# EAGLE library part AM4_SOCKET_SINGLE (library AM4 Socket by YTM)
One Piece Symbol AM4 Socket Footprint by YeaTheMen AMD Ryzen AM4 Socket Footprint EAGLE Library Footprint Revision C github.com/YeaTheMen/eagle-libraries Notes * Measurements and Pins referenced from resources from WikiChip AM4 Socket <https://en.wikichip.org/wiki/amd/packages/socket_am4>
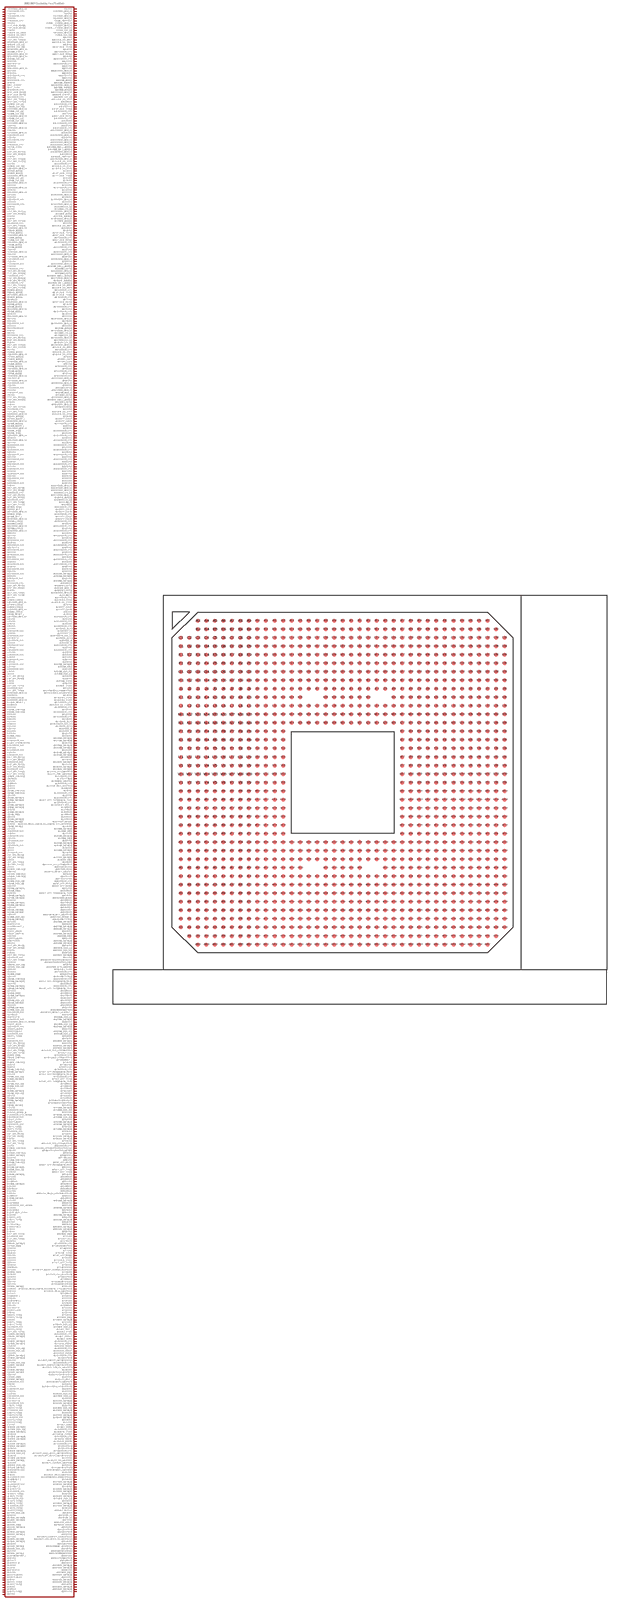
[diagram p0: symbol with the pads of AM4_SOCKET; footprint AM4_SOCKET]

Designator prefix -

## AM4_SOCKET_SINGLE  [AM4_SOCKET]
A3  A3.VSS  out
A4  A4.DP0_TXN[2]
A5  A5.RSVD  nc
A6  A6.VSS  out
A7  A7.DP2_TXP[1]
A8  A8.DP2_TXN[1]
A9  A9.VSS  out
A10  A10.DP2_AUXP
A11  A11.DP2_AUXN
A12  A12.VSS  out
A13  A13.TEST11
A14  A14.TDI
A15  A15.VSS  out
A16  A16.TEST41
A17  A17.SVT
A18  A18.VSS  out
A19  A19.THERMTRIP_L
A20  A20.MB_DATA[4]
A21  A21.VSS  out
A22  A22.MB_DQS_L[0]
A23  A23.MB_DATA[6]
A24  A24.VSS  out
A25  A25.MB_DATA[12]
A26  A26.MB_DATA[8]
A27  A27.VSS  out
A28  A28.MB_DATA[14]
A29  A29.MB_DATA[10]
A30  A30.VSS  out
A31  A31.MB_DATA[16]
A32  A32.MB_DM[2]
A33  A33.VSS  out
A34  A34.MB_DATA[23]
A35  A35.MB_DATA[28]
A36  A36.VSS  out
A37  A37.MB_DQS_L[3]
AA1  AA1.VSS  out
AA2  AA2.USB_SS_1RXP
AA3  AA3.USB_SS_1RXN
AA4  AA4.VSS  out
AA5  AA5.P_HUB_TXP[1]
AA6  AA6.VSS  out
AA7  AA7.VDDCR_CPU  pwr
AA8  AA8.P_HUB_RXN[1]
AA9  AA9.VSS  out
AA10  AA10.VDDCR_CPU  pwr
AA11  AA11.VSS  out
AA12  AA12.VDDCR_CPU  pwr
AA13  AA13.VSS  out
AA27  AA27.VSS  out
AA28  AA28.VDDIO_MEM_S3  pwr
AA29  AA29.VSS  out
AA30  AA30.TEST31
AA31  AA31.VSS  out
AA32  AA32.MA_ADD[0]
AA33  AA33.MA_BANK[1]
AA34  AA34.VDDIO_MEM_S3  pwr
AA35  AA35.MA_BANK[0]
AA36  AA36.MA_ADD[10]
AA37  AA37.VDDIO_MEM_S3  pwr
AA38  AA38.MB_EVENT_L
AA39  AA39.MB_CLK_L[3]
AB1  AB1.USB_SS_1TXP
AB2  AB2.RSVD  nc
AB3  AB3.VDDCR_CPU  pwr
AB4  AB4.TEST10
AB5  AB5.P_HUB_TXN[1]
AB6  AB6.VDDCR_CPU  pwr
AB7  AB7.VSS  out
AB8  AB8.P_HUB_RXP[1]
AB9  AB9.VDDCR_CPU  pwr
AB10  AB10.VSS  out
AB11  AB11.VDDCR_CPU  pwr
AB12  AB12.VSS  out
AB13  AB13.VDDCR_CPU  pwr
AB27  AB27.VDDIO_MEM_S3  pwr
AB28  AB28.VSS  out
AB29  AB29.VDDIO_MEM_S3  pwr
AB30  AB30.VSS  out
AB31  AB31.VDDIO_MEM_S3  pwr
AB32  AB32.VDDIO_MEM_S3  pwr
AB33  AB33.VDDIO_MEM_S3  pwr
AB34  AB34.MA_RAS_L_ADD[16]
AB35  AB35.MA_WE_L_ADD[14]
AB36  AB36.VDDIO_MEM_S3  pwr
AB37  AB37.RSVD  nc
AB38  AB38.MB_PARTOUT  out
AB39  AB39.VDDIO_MEM_S3  pwr
AC1  AC1.USB_SS_1TXN
AC2  AC2.VDDCR_CPU  pwr
AC3  AC3.USB_SS_2TXP
AC4  AC4.USB_SS_2TXN
AC5  AC5.VSS  out
AC6  AC6.P_HUB_TXP[2]
AC7  AC7.P_HUB_TXN[2]
AC8  AC8.VSS  out
AC9  AC9.VSS  out
AC10  AC10.VDDCR_CPU  pwr
AC11  AC11.VSS  out
AC12  AC12.VDDCR_CPU  pwr
AC13  AC13.VSS  out
AC27  AC27.VSS  out
AC28  AC28.VDDIO_MEM_S3  pwr
AC29  AC29.VSS  out
AC30  AC30.VDDIO_MEM_S3  pwr
AC31  AC31.VSS  out
AC32  AC32.VDDIO_MEM_S3  pwr
AC33  AC33.MA0_CS_L[0]
AC34  AC34.MA1_CS_L[0]
AC35  AC35.VDDIO_MEM_S3  pwr
AC36  AC36.MB_ADD[0]
AC37  AC37.MB_BANK[1]
AC38  AC38.VDDIO_MEM_S3  pwr
AC39  AC39.MB_ADD[10]
AD1  AD1.VSS  out
AD2  AD2.USB_SS_2RXP
AD3  AD3.RSVD  nc
AD4  AD4.VSS  out
AD5  AD5.P_HUB_TXP[3]
AD6  AD6.P_HUB_TXN[3]
AD7  AD7.VDDCR_CPU  pwr
AD8  AD8.P_HUB_RXN[0]
AD9  AD9.VDDCR_CPU  pwr
AD10  AD10.VSS  out
AD11  AD11.VDDCR_CPU  pwr
AD12  AD12.VSS  out
AD13  AD13.VDDCR_CPU  pwr
AD27  AD27.VDDIO_MEM_S3  pwr
AD28  AD28.VSS  out
AD29  AD29.VDDIO_MEM_S3  pwr
AD30  AD30.VSS  out
AD31  AD31.VDDIO_MEM_S3  pwr
AD32  AD32.MA_CAS_L_ADD[15]
AD33  AD33.MA1_ODT[0]
AD34  AD34.VDDIO_MEM_S3  pwr
AD35  AD35.MA0_ODT[0]
AD36  AD36.MB_RAS_L_ADD[16]
AD37  AD37.VDDIO_MEM_S3  pwr
AD38  AD38.MB_BANK[0]
AD39  AD39.MB_WE_L_ADD[14]
AE1  AE1.USB_SS_3RXP
AE2  AE2.USB_SS_2RXN
AE3  AE3.VDDCR_CPU  pwr
AE4  AE4.P_HUB_TXP[0]
AE5  AE5.P_HUB_TXN[0]
AE6  AE6.VDDCR_CPU  pwr
AE7  AE7.VSS  out
AE8  AE8.P_HUB_RXP[0]
AE9  AE9.VSS  out
AE10  AE10.VDDCR_CPU  pwr
AE11  AE11.VSS  out
AE12  AE12.VDDCR_CPU  pwr
AE13  AE13.VSS  out
AE27  AE27.VSS  out
AE28  AE28.VDDIO_MEM_S3  pwr
AE29  AE29.VSS  out
AE30  AE30.VDDIO_MEM_S3  pwr
AE31  AE31.VSS  out
AE32  AE32.MA_ADD[13]
AE33  AE33.VDDIO_MEM_S3  pwr
AE34  AE34.MA1_CS_L[1]
AE35  AE35.MA0_CS_L[1]
AE36  AE36.VDDIO_MEM_S3  pwr
AE37  AE37.MB0_CS_L[0]
AE38  AE38.MB1_CS_L[0]
AE39  AE39.VDDIO_MEM_S3  pwr
AF1  AF1.USB_SS_3RXN
AF2  AF2.VDDCR_CPU  pwr
AF3  AF3.USB_SS_0TXP
AF4  AF4.USB_SS_0TXN
AF5  AF5.VSS  out
AF6  AF6.GFX_CLKP
AF7  AF7.GFX_CLKN
AF8  AF8.VSS  out
AF9  AF9.VDDCR_CPU  pwr
AF10  AF10.VSS  out
AF11  AF11.VDDCR_CPU  pwr
AF12  AF12.VSS  out
AF13  AF13.VDDCR_CPU  pwr
AF27  AF27.VDDIO_MEM_S3  pwr
AF28  AF28.VSS  out
AF29  AF29.VDDIO_MEM_S3  pwr
AF30  AF30.VSS  out
AF31  AF31.MA0_ODT[1]
AF32  AF32.VDDIO_MEM_S3  pwr
AF33  AF33.MA_ADD_17
AF34  AF34.MA1_ODT[1]
AF35  AF35.VDDIO_MEM_S3  pwr
AF36  AF36.MB_CAS_L_ADD[15]
AF37  AF37.MB1_ODT[0]
AF38  AF38.VDDIO_MEM_S3  pwr
AF39  AF39.MB0_ODT[0]
AG1  AG1.VSS  out
AG2  AG2.USB_SS_3TXP
AG3  AG3.USB_SS_3TXN
AG4  AG4.VSS  out
AG5  AG5.GPP_CLK0P
AG6  AG6.GPP_CLK0N
AG7  AG7.VDDCR_CPU  pwr
AG8  AG8.VSS  out
AG9  AG9.VSS  out
AG10  AG10.VDDCR_CPU  pwr
AG11  AG11.VSS  out
AG12  AG12.VDDCR_CPU  pwr
AG13  AG13.VSS  out
AG14  AG14.VDDCR_CPU  pwr
AG15  AG15.VSS  out
AG16  AG16.VDDCR_CPU  pwr
AG17  AG17.VSS  out
AG18  AG18.VDDCR_CPU  pwr
AG19  AG19.VSS  out
AG20  AG20.VDDCR_CPU  pwr
AG21  AG21.VSS  out
AG22  AG22.VDDCR_CPU  pwr
AG23  AG23.VSS  out
AG24  AG24.VDDCR_CPU  pwr
AG25  AG25.VSS  out
AG26  AG26.VDDCR_CPU  pwr
AG27  AG27.VSS  out
AG28  AG28.VSS  out
AG29  AG29.VSS  out
AG30  AG30.VSS  out
AG31  AG31.VSS  out
AG32  AG32.VSS  out
AG33  AG33.VDDIO_MEM_S3  pwr
AG34  AG34.VDDIO_MEM_S3  pwr
AG35  AG35.VDDIO_MEM_S3  pwr
AG36  AG36.MB1_CS_L[1]
AG37  AG37.VDDIO_MEM_S3  pwr
AG38  AG38.MB_ADD[13]
AG39  AG39.MB0_CS_L[1]
AH1  AH1.X48M_X2
AH2  AH2.RSVD  nc
AH3  AH3.VDDCR_CPU  pwr
AH4  AH4.GPP_CLK1P
AH5  AH5.GPP_CLK1N
AH6  AH6.VDDCR_CPU  pwr
AH7  AH7.GPP_CLK2P
AH8  AH8.GPP_CLK2N
AH9  AH9.VDDCR_CPU  pwr
AH10  AH10.VSS  out
AH11  AH11.VDDCR_CPU  pwr
AH12  AH12.VSS  out
AH13  AH13.VDDCR_CPU  pwr
AH14  AH14.VSS  out
AH15  AH15.VDDCR_CPU  pwr
AH16  AH16.VSS  out
AH17  AH17.VDDCR_CPU  pwr
AH18  AH18.VSS  out
AH19  AH19.VDDCR_CPU  pwr
AH20  AH20.VSS  out
AH21  AH21.VDDCR_CPU  pwr
AH22  AH22.VSS  out
AH23  AH23.VDDCR_CPU  pwr
AH24  AH24.VSS  out
AH25  AH25.VDDCR_CPU  pwr
AH26  AH26.VSS  out
AH27  AH27.VDDCR_CPU  pwr
AH28  AH28.VSS  out
AH29  AH29.VSS  out
AH30  AH30.VSS  out
AH31  AH31.MA_DATA[36]
AH32  AH32.MA_DATA[37]
AH33  AH33.VSS  out
AH34  AH34.MA_DATA[32]
AH35  AH35.RSVD  nc
AH36  AH36.MB0_ODT[1]
AH37  AH37.MB_ADD_17
AH38  AH38.MB1_ODT[1]
AH39  AH39.VDDIO_MEM_S3  pwr
AJ1  AJ1.X48M_X1
AJ2  AJ2.VDDCR_CPU  pwr
AJ3  AJ3.USB0_ZVSS  out
AJ4  AJ4.USB_SS_ZVSS  out
AJ5  AJ5.VSS  out
AJ6  AJ6.GPP_CLK3P
AJ7  AJ7.GPP_CLK3N
AJ8  AJ8.VSS  out
AJ9  AJ9.VSS  out
AJ10  AJ10.VDDCR_CPU  pwr
AJ11  AJ11.VSS  out
AJ12  AJ12.VDDCR_CPU  pwr
AJ13  AJ13.VSS  out
AJ14  AJ14.VDDCR_CPU  pwr
AJ15  AJ15.VDD_18_S5  pwr
AJ16  AJ16.VDDP_S5  pwr
AJ17  AJ17.VDDP_S5  pwr
AJ18  AJ18.VDDCR_SOC_S5  pwr
AJ19  AJ19.VDD_33_S5  pwr
AJ20  AJ20.VDD_18  pwr
AJ21  AJ21.VDD_33  pwr
AJ22  AJ22.VDDCR_CPU  pwr
AJ23  AJ23.VSS  out
AJ24  AJ24.VDDCR_CPU  pwr
AJ25  AJ25.VSS  out
AJ26  AJ26.VSS  out
AJ27  AJ27.VSS  out
AJ28  AJ28.VSS  out
AJ29  AJ29.VSS  out
AJ30  AJ30.MA_DATA[33]
AJ31  AJ31.MA_DM[4]
AJ32  AJ32.VSS  out
AJ33  AJ33.MA_DQS_H[4]
AJ34  AJ34.MA_DQS_L[4]
AJ35  AJ35.VSS  out
AJ36  AJ36.VSS  out
AJ37  AJ37.MA_ZVSS  out
AJ38  AJ38.VSS  out
AJ39  AJ39.MB_ZVSS  out
AK1  AK1.VSS  out
AK2  AK2.SDA1/I2C3_SDA/AGPIO20
AK3  AK3.SCL1/I2C3_SCL/AGPIO19
AK4  AK4.VSS  out
AK5  AK5.USB3_ZVSS  out
AK6  AK6.USB2_ZVSS  out
AK7  AK7.VDDCR_CPU  pwr
AK8  AK8.USB_SS_ZVDDP  pwr
AK9  AK9.VDDCR_CPU  pwr
AK10  AK10.VSS  out
AK11  AK11.VDDCR_CPU  pwr
AK12  AK12.VSS  out
AK13  AK13.VDDCR_CPU  pwr
AK14  AK14.VSS  out
AK15  AK15.VDD_18_S5  pwr
AK18  AK18.VDDCR_SOC_S5  pwr
AK19  AK19.VDD_33_S5  pwr
AK20  AK20.VDD_18  pwr
AK21  AK21.VDD_33  pwr
AK22  AK22.VSS  out
AK25  AK25.VSS  out
AK26  AK26.MA_DATA[57]
AK27  AK27.MA_DATA[56]
AK28  AK28.VSS  out
AK29  AK29.MA_DATA[49]
AK30  AK30.MA_DATA[34]
AK31  AK31.VSS  out
AK32  AK32.MA_DATA[39]
AK33  AK33.MA_DATA[38]
AK34  AK34.RSVD  nc
AK35  AK35.VSS  out
AK36  AK36.MB_DATA[37]
AK37  AK37.VSS  out
AK38  AK38.MB_DATA[36]
AK39  AK39.MB_DATA[32]
AL1  AL1.USB_OC0_L/AGPIO16
AL2  AL2.LPC_PME_L/AGPIO22
AL3  AL3.VDDCR_CPU  pwr
AL4  AL4.TEST46[13]
AL5  AL5.WAKE_L/AGPIO2
AL6  AL6.VDDCR_CPU  pwr
AL7  AL7.PCIE_RST_L/EGPIO26
AL8  AL8.AM4R1
AL9  AL9.VSS  out
AL10  AL10.VDDCR_CPU  pwr
AL11  AL11.VSS  out
AL12  AL12.VDDCR_CPU  pwr
AL13  AL13.P_GPP_TXP[2]/SATA_TX0P
AL14  AL14.VDDCR_CPU  pwr
AL15  AL15.VDDBT_RTC_G  pwr
AL16  AL16.RSVD  nc
AL17  AL17.RSVD  nc
AL18  AL18.RSVD  nc
AL19  AL19.RSVD  nc
AL20  AL20.RSVD  nc
AL21  AL21.RSVD  nc
AL22  AL22.VDDP_SENSE  pwr
AL23  AL23.CLK_REQ3_L/SATA_IS1_L/SATA_ZP1_L/EGPIO131
AL24  AL24.VSS  out
AL25  AL25.MA_DATA[62]
AL26  AL26.MA_DM[7]
AL27  AL27.VSS  out
AL28  AL28.MA_DATA[51]
AL29  AL29.MA_DM[6]
AL30  AL30.VSS  out
AL31  AL31.MA_DATA[45]
AL32  AL32.MA_DATA[44]
AL33  AL33.VSS  out
AL34  AL34.MA_DATA[35]
AL35  AL35.VSS  out
AL36  AL36.VSS  out
AL37  AL37.MB_DATA[33]
AL38  AL38.MB_DM[4]
AL39  AL39.VSS  out
AM1  AM1.USB_OC1_L/TDI/AGPIO17
AM2  AM2.VDDCR_CPU  pwr
AM3  AM3.PWR_GOOD
AM4  AM4.SYS_RESET_L/AGPIO1
AM5  AM5.VSS  out
AM6  AM6.TEST0
AM7  AM7.TEST1/TMS
AM8  AM8.VDDCR_CPU  pwr
AM9  AM9.P_GPP_RXP[1]
AM10  AM10.P_GPP_RXN[1]
AM11  AM11.VSS  out
AM12  AM12.RSVD  nc
AM13  AM13.P_GPP_TXN[2]/SATA_TX0N
AM14  AM14.VSS  out
AM15  AM15.VDDIO_AUDIO  pwr
AM16  AM16.RSVD  nc
AM17  AM17.RSVD  nc
AM18  AM18.VDDP  pwr
AM19  AM19.VDDP  pwr
AM20  AM20.VDDP  pwr
AM21  AM21.RSVD  nc
AM22  AM22.SATA_ACT_L/AGPIO130
AM23  AM23.VSS_SENSE_B
AM24  AM24.CORETYPE[0]
AM25  AM25.MA_DATA[63]
AM26  AM26.VSS  out
AM27  AM27.MA_DATA[61]
AM28  AM28.MA_DATA[50]
AM29  AM29.VSS  out
AM30  AM30.MA_DATA[52]
AM31  AM31.MA_DM[5]
AM32  AM32.VSS  out
AM33  AM33.MA_DATA[41]
AM34  AM34.MA_DATA[40]
AM35  AM35.VSS  out
AM36  AM36.MB_DQS_L[4]
AM37  AM37.MB_DQS_H[4]
AM38  AM38.VSS  out
AM39  AM39.MB_DATA[38]
AN1  AN1.VSS  out
AN2  AN2.AGPIO9/SGPIO0_DATAOUT  out
AN3  AN3.AGPIO23/SGPIO0_LOAD
AN4  AN4.VSS  out
AN5  AN5.PWR_BTN_L/AGPIO0
AN6  AN6.USB1_ZVSS  out
AN7  AN7.VDDCR_CPU  pwr
AN8  AN8.AGPIO6
AN9  AN9.CORETYPE[1]
AN10  AN10.VDDCR_CPU  pwr
AN11  AN11.P_GPP_RXN[3]/SATA_RX1N
AN12  AN12.RSVD  nc
AN13  AN13.VDDCR_CPU  pwr
AN14  AN14.P_GPP_TXP[3]/SATA_TX1P
AN15  AN15.RSVD  nc
AN16  AN16.RSVD  nc
AN17  AN17.RSVD  nc
AN18  AN18.VDDP  pwr
AN19  AN19.VDDP  pwr
AN20  AN20.VDDP  pwr
AN21  AN21.RSVD  nc
AN22  AN22.VSS  out
AN23  AN23.FANIN0/AGPIO84  in
AN24  AN24.ESPI_RESET_L/KBRST_L
AN25  AN25.VSS  out
AN26  AN26.MA_DQS_L[7]
AN27  AN27.MA_DATA[60]
AN28  AN28.VSS  out
AN29  AN29.MA_DQS_L[6]
AN30  AN30.MA_DATA[53]
AN31  AN31.VSS  out
AN32  AN32.MA_DQS_H[5]
AN33  AN33.MA_DQS_L[5]
AN34  AN34.VSS  out
AN35  AN35.VSS  out
AN36  AN36.MB_DATA[34]
AN37  AN37.VSS  out
AN38  AN38.MB_DATA[39]
AN39  AN39.MB_DATA[35]
AP1  AP1.USB_OC3_L/TDO/AGPIO24
AP2  AP2.SLP_S5_L
AP3  AP3.VDDCR_CPU  pwr
AP4  AP4.S5_MUX_CTRL/EGPIO42
AP5  AP5.RSMRST_L
AP6  AP6.VSS  out
AP7  AP7.AGPIO8
AP8  AP8.RTCCLK
AP9  AP9.VDDCR_CPU  pwr
AP10  AP10.P_GPP_RXN[2]/SATA_RX0N
AP11  AP11.P_GPP_RXP[3]/SATA_RX1P
AP12  AP12.VDDCR_CPU  pwr
AP13  AP13.P_GPP_TXP[1]
AP14  AP14.P_GPP_TXN[3]/SATA_TX1N
AP15  AP15.RSVD  nc
AP16  AP16.RSVD  nc
AP17  AP17.RSVD  nc
AP18  AP18.VDDP  pwr
AP19  AP19.VDDP  pwr
AP20  AP20.VDDP  pwr
AP21  AP21.RSVD  nc
AP22  AP22.AGPIO5/DEVSLP0
AP23  AP23.FANOUT0/AGPIO85  out
AP24  AP24.VSS  out
AP25  AP25.MA_DATA[58]
AP26  AP26.MA_DQS_H[7]
AP27  AP27.VSS  out
AP28  AP28.MA_DATA[54]
AP29  AP29.MA_DQS_H[6]
AP30  AP30.VSS  out
AP31  AP31.MA_DATA[42]
AP32  AP32.MA_DATA[47]
AP33  AP33.VSS  out
AP34  AP34.MA_DATA[46]
AP35  AP35.VSS  out
AP36  AP36.VSS  out
AP37  AP37.MB_DATA[44]
AP38  AP38.MB_DATA[45]
AP39  AP39.VSS  out
AR1  AR1.USB_OC2_L/TCK/AGPIO18
AR2  AR2.VDDCR_CPU  pwr
AR3  AR3.S0A3_GPIO/AGPIO10/SGPIO0_CLK
AR4  AR4.AGPIO40/SGPIO0_DATAIN  in
AR5  AR5.VSS  out
AR6  AR6.AGPIO4
AR7  AR7.48M_OSC
AR8  AR8.VSS  out
AR9  AR9.P_GPP_RXP[0]
AR10  AR10.P_GPP_RXP[2]/SATA_RX0P
AR11  AR11.VSS  out
AR12  AR12.P_GPP_TXN[0]
AR13  AR13.P_GPP_TXN[1]
AR14  AR14.VSS  out
AR15  AR15.RSVD  nc
AR16  AR16.RSVD  nc
AR17  AR17.VSS  out
AR18  AR18.RSVD  nc
AR19  AR19.RSVD  nc
AR20  AR20.RSVD  nc
AR21  AR21.RSVD  nc
AR22  AR22.CLK_REQG_L/OSCIN/EGPIO132  in
AR23  AR23.VSS  out
AR24  AR24.RSVD  nc
AR25  AR25.MA_DATA[59]
AR26  AR26.VSS  out
AR27  AR27.VSS  out
AR28  AR28.MA_DATA[55]
AR29  AR29.VSS  out
AR30  AR30.VSS  out
AR31  AR31.MA_DATA[48]
AR32  AR32.VSS  out
AR33  AR33.MA_DATA[43]
AR34  AR34.VSS  out
AR35  AR35.VSS  out
AR36  AR36.MB_DATA[40]
AR37  AR37.MB_DATA[41]
AR38  AR38.VSS  out
AR39  AR39.MB_DM[5]
AT1  AT1.VSS  out
AT2  AT2.SLP_S3_L
AT3  AT3.TEST2
AT4  AT4.VDDCR_CPU  pwr
AT5  AT5.BLINK/AGPIO11  in
AT6  AT6.AGPIO3
AT7  AT7.VSS  out
AT8  AT8.P0B_ZVSS  out
AT9  AT9.P_GPP_RXN[0]
AT10  AT10.VSS  out
AT11  AT11.USB_ZVSS  out
AT12  AT12.P_GPP_TXP[0]
AT13  AT13.VSS  out
AT14  AT14.EGPIO100
AT15  AT15.ESPI_ALERT_L/LDRQ0_L/EGPIO108
AT16  AT16.VSS  out
AT17  AT17.SPI_CS1_L/EGPIO118
AT18  AT18.EGPIO70
AT19  AT19.RSVD  nc
AT20  AT20.LAD3/EGPIO107
AT21  AT21.LAD2/EGPIO106
AT22  AT22.VSS  out
AT23  AT23.CLK_REQ0_L/SATA_IS0_L/SATA_ZP0_L/AGPIO92
AT24  AT24.CLK_REQ2_L/AGPIO116
AT25  AT25.RSVD  nc
AT26  AT26.VSS  out
AT27  AT27.VSS  out
AT28  AT28.VSS  out
AT29  AT29.VSS  out
AT30  AT30.RSVD  nc
AT31  AT31.VSS  out
AT32  AT32.VSS  out
AT33  AT33.VSS  out
AT34  AT34.VSS  out
AT35  AT35.MB_DM[6]
AT36  AT36.MB_DATA[46]
AT37  AT37.VSS  out
AT38  AT38.MB_DQS_H[5]
AT39  AT39.MB_DQS_L[5]
AU1  AU1.AZ_RST_L
AU2  AU2.AZ_SYNC
AU3  AU3.VDDCR_CPU  pwr
AU4  AU4.AZ_SDOUT  out
AU5  AU5.AZ_SDIN1  in
AU6  AU6.VDDCR_CPU  pwr
AU7  AU7.USB_HSD0P
AU8  AU8.USB_HSD0N
AU9  AU9.VDDCR_CPU  pwr
AU10  AU10.USB_HSD2P
AU11  AU11.USB_HSD2N
AU12  AU12.VDDCR_CPU  pwr
AU13  AU13.EGPIO98
AU14  AU14.SPI_DI/ESPI_DAT1/EGPIO120
AU15  AU15.VDDCR_CPU  pwr
AU16  AU16.SPI_DO/ESPI_DAT0/EGPIO121
AU17  AU17.SPI_TPM_CS_L/AGPIO76
AU18  AU18.VSS  out
AU19  AU19.LPCCLK1/EGPIO75
AU20  AU20.LPCCLK0/EGPIO74
AU21  AU21.VSS  out
AU22  AU22.LPC_RST_L
AU23  AU23.GENINT2_L/AGPIO90  in
AU24  AU24.VSS  out
AU25  AU25.SCL0/I2C2_SCL/EGPIO113
AU26  AU26.VSS  out
AU27  AU27.VSS  out
AU28  AU28.MB_DQS_H[7]
AU29  AU29.MB_DQS_L[7]
AU30  AU30.VSS  out
AU31  AU31.MB_DATA[61]
AU32  AU32.MB_DATA[51]
AU33  AU33.VSS  out
AU34  AU34.MB_DQS_H[6]
AU35  AU35.MB_DATA[49]
AU36  AU36.VSS  out
AU37  AU37.MB_DATA[42]
AU38  AU38.MB_DATA[47]
AU39  AU39.VSS  out
AV2  AV2.VSS  out
AV3  AV3.AZ_SDIN0  in
AV4  AV4.AZ_SDIN2  in
AV5  AV5.VDDCR_CPU  pwr
AV6  AV6.SATA_ZVSS  out
AV7  AV7.SATA_ZVDDP  pwr
AV8  AV8.VDDCR_CPU  pwr
AV9  AV9.USB_HSD3P
AV10  AV10.USB_HSD3N
AV11  AV11.VDDCR_CPU  pwr
AV12  AV12.EGPIO96
AV13  AV13.EGPIO99
AV14  AV14.VDDCR_CPU  pwr
AV15  AV15.SPI_HOLD_L/ESPI_DAT3/EGPIO133
AV16  AV16.SPI_WP_L/ESPI_DAT2/EGPIO122
AV17  AV17.VSS  out
AV18  AV18.LPC_PD_L/AGPIO21
AV19  AV19.LPC_CLKRUN_L/AGPIO88
AV20  AV20.VSS  out
AV21  AV21.LAD1/EGPIO105
AV22  AV22.GENINT1_L/AGPIO89  in
AV23  AV23.VSS  out
AV24  AV24.CLK_REQ1_L/AGPIO115
AV25  AV25.SDA0/I2C2_SDA/EGPIO114
AV26  AV26.VSS  out
AV27  AV27.MB_DATA[63]
AV28  AV28.MB_DATA[62]
AV29  AV29.VSS  out
AV30  AV30.MB_DATA[57]
AV31  AV31.MB_DATA[60]
AV32  AV32.VSS  out
AV33  AV33.MB_DATA[55]
AV34  AV34.MB_DQS_L[6]
AV35  AV35.VSS  out
AV36  AV36.MB_DATA[52]
AV37  AV37.MB_DATA[43]
AV38  AV38.VSS  out
AW3  AW3.AZ_BITCLK
AW4  AW4.VSS  out
AW5  AW5.X32K_X1
AW6  AW6.X32K_X2
AW7  AW7.VSS  out
AW8  AW8.USB_HSD1P
AW9  AW9.USB_HSD1N
AW10  AW10.VSS  out
AW11  AW11.EGPIO95
AW12  AW12.EGPIO97
AW13  AW13.VSS  out
AW14  AW14.SPI_CLK/ESPI_CLK/EGPIO117
AW15  AW15.SPI_CS2_L/ESPI_CS_L/EGPIO119
AW16  AW16.VSS  out
AW17  AW17.AGPIO86
AW18  AW18.LFRAME_L/EGPIO109
AW19  AW19.VSS  out
AW20  AW20.LAD0/EGPIO104
AW21  AW21.SERIRQ/AGPIO87
AW22  AW22.VSS  out
AW23  AW23.SPKR/AGPIO91
AW24  AW24.RSVD  nc
AW25  AW25.VSS  out
AW26  AW26.MB_DATA[59]
AW27  AW27.MB_DATA[58]
AW28  AW28.VSS  out
AW29  AW29.MB_DM[7]
AW30  AW30.MB_DATA[56]
AW31  AW31.VSS  out
AW32  AW32.MB_DATA[50]
AW33  AW33.MB_DATA[54]
AW34  AW34.VSS  out
AW35  AW35.MB_DATA[48]
AW36  AW36.MB_DATA[53]
AW37  AW37.VSS  out
B3  B3.DP0_TXN[1]
B4  B4.DP0_TXP[2]
B5  B5.VDDCR_SOC  pwr
B6  B6.DP2_TXP[0]
B7  B7.DP2_TXN[0]
B8  B8.VDDCR_SOC  pwr
B9  B9.DP2_TXP[3]
B10  B10.DP2_TXN[3]
B11  B11.VDDCR_SOC  pwr
B12  B12.TEST15
B13  B13.TRST_L
B14  B14.VDDCR_SOC  pwr
B15  B15.TMS
B16  B16.RESET_L
B17  B17.VDDCR_SOC  pwr
B18  B18.SIC
B19  B19.VSS  out
B20  B20.VDDCR_SOC  pwr
B21  B21.MB_DATA[1]
B22  B22.MB_DQS_H[0]
B23  B23.VSS  out
B24  B24.MB_DATA[2]
B25  B25.MB_DATA[13]
B26  B26.VSS  out
B27  B27.MB_DQS_L[1]
B28  B28.MB_DATA[15]
B29  B29.VSS  out
B30  B30.MB_DATA[20]
B31  B31.MB_DATA[17]
B32  B32.VSS  out
B33  B33.MB_DATA[22]
B34  B34.MB_DATA[18]
B35  B35.VSS  out
B36  B36.MB_DATA[24]
B37  B37.MB_DQS_H[3]
B38  B38.MB_DATA[30]
C1  C1.VSS  out
C2  C2.DP0_TXN[0]
C3  C3.DP0_TXP[1]
C4  C4.VDDCR_SOC  pwr
C5  C5.DP0_TXP[3]
C6  C6.DP0_TXN[3]
C7  C7.VDDCR_SOC  pwr
C8  C8.DP2_TXP[2]
C9  C9.DP2_TXN[2]
C10  C10.VDDCR_SOC  pwr
C11  C11.TEST16
C12  C12.TEST14
C13  C13.VDDCR_SOC  pwr
C14  C14.TDO
C15  C15.TCK
C16  C16.VDDCR_SOC  pwr
C17  C17.SVD
C18  C18.SID
C19  C19.VDDCR_SOC  pwr
C20  C20.MB_DATA[5]
C21  C21.MB_DM[0]
C22  C22.VSS  out
C23  C23.MB_DATA[7]
C24  C24.MB_DATA[3]
C25  C25.VSS  out
C26  C26.MB_DATA[9]
C27  C27.MB_DQS_H[1]
C28  C28.VSS  out
C29  C29.MB_DATA[11]
C30  C30.MB_DATA[21]
C31  C31.VSS  out
C32  C32.MB_DQS_L[2]
C33  C33.MB_DQS_H[2]
C34  C34.VSS  out
C35  C35.MB_DATA[19]
C36  C36.MB_DATA[29]
C37  C37.VSS  out
C38  C38.MB_DATA[31]
C39  C39.MB_DATA[26]
D1  D1.P_GFX_TXP[0]
D2  D2.DP0_TXP[0]
D3  D3.VDDCR_SOC  pwr
D4  D4.DP1_TXP[0]
D5  D5.DP1_TXN[0]
D6  D6.VSS  out
D7  D7.DP1_TXP[1]
D8  D8.DP1_TXN[1]
D9  D9.VSS  out
D10  D10.DP1_HPD
D11  D11.TEST17
D12  D12.VSS  out
D13  D13.TEST6
D14  D14.DBREQ_L
D15  D15.VSS  out
D16  D16.ALERT_L
D17  D17.SVC
D18  D18.VSS  out
D19  D19.VSS  out
D20  D20.MB_DATA[0]
D21  D21.VSS  out
D22  D22.VSS  out
D23  D23.VSS  out
D24  D24.VSS  out
D25  D25.VSS  out
D26  D26.MB_DM[1]
D27  D27.VSS  out
D28  D28.RSVD  nc
D29  D29.VSS  out
D30  D30.VSS  out
D31  D31.VSS  out
D32  D32.VSS  out
D33  D33.VSS  out
D34  D34.VSS  out
D35  D35.VSS  out
D36  D36.VSS  out
D37  D37.MB_DM[3]
D38  D38.MB_DATA[27]
D39  D39.VSS  out
E1  E1.P_GFX_TXN[0]
E2  E2.VDDCR_SOC  pwr
E3  E3.P_GFX_TXP[1]
E4  E4.VSS  out
E5  E5.VSS  out
E6  E6.TEST28_H
E7  E7.TEST28_L
E8  E8.VSS  out
E9  E9.DP1_TXP[3]
E10  E10.DP2_HPD
E11  E11.VSS  out
E12  E12.DP_AUX_ZVSS  out
E13  E13.DBRDY
E14  E14.VSS  out
E15  E15.VDDCR_SOC_SENSE  pwr
E16  E16.PWROK
E17  E17.VSS  out
E18  E18.MA_DATA[0]
E19  E19.RSVD  nc
E20  E20.VSS  out
E21  E21.VSS  out
E22  E22.RSVD  nc
E23  E23.VSS  out
E24  E24.MA_DATA[10]
E25  E25.RSVD  nc
E26  E26.VSS  out
E27  E27.VSS  out
E28  E28.MA_DATA[22]
E29  E29.VSS  out
E30  E30.MA_DQS_L[3]
E31  E31.MA_DATA[30]
E32  E32.VSS  out
E33  E33.MA_CHECK[4]
E34  E34.MA_CHECK[5]
E35  E35.VSS  out
E36  E36.MB_DATA[25]
E37  E37.MB_CHECK[4]
E38  E38.VSS  out
E39  E39.MB_CHECK[5]
F1  F1.VSS  out
F2  F2.P_GFX_TXP[2]
F3  F3.P_GFX_TXN[1]
F4  F4.VSS  out
F5  F5.P_GFX_RXN[0]
F6  F6.P_GFX_RXP[0]
F7  F7.VDDCR_SOC  pwr
F8  F8.DP1_TXP[2]
F9  F9.DP1_TXN[3]
F10  F10.VDDCR_SOC  pwr
F11  F11.DP1_AUXP
F12  F12.DP_ZVSS  out
F13  F13.VDDCR_SOC  pwr
F14  F14.VDDCR_CPU_SENSE  pwr
F15  F15.VSS_SENSE_A
F16  F16.VDDCR_SOC  pwr
F17  F17.VSS  out
F18  F18.MA_DATA[5]
F19  F19.VSS  out
F20  F20.MA_DATA[7]
F21  F21.MA_DATA[12]
F22  F22.VSS  out
F23  F23.MA_DQS_H[1]
F24  F24.MA_DATA[15]
F25  F25.VSS  out
F26  F26.MA_DQS_L[2]
F27  F27.MA_DQS_H[2]
F28  F28.VSS  out
F29  F29.MA_DATA[24]
F30  F30.MA_DQS_H[3]
F31  F31.VSS  out
F32  F32.MA_DATA[27]
F33  F33.MA_CHECK[0]
F34  F34.VSS  out
F35  F35.VSS  out
F36  F36.MB_CHECK[1]
F37  F37.VSS  out
F38  F38.MB_CHECK[0]
F39  F39.MB_DM[8]
G1  G1.P_GFX_TXP[3]
G2  G2.P_GFX_TXN[2]
G3  G3.VDDCR_SOC  pwr
G4  G4.P_GFX_RXN[1]
G5  G5.P_GFX_RXP[1]
G6  G6.VDDCR_SOC  pwr
G7  G7.VSS  out
G8  G8.DP1_TXN[2]
G9  G9.VDDCR_SOC  pwr
G10  G10.DP0_AUXP
G11  G11.DP1_AUXN
G12  G12.VDDCR_SOC  pwr
G13  G13.DP_BLON
G14  G14.VDDIO_MEM_S3_SENSE  pwr
G15  G15.VDDCR_SOC  pwr
G16  G16.TEST18
G17  G17.RSVD  nc
G18  G18.VDDCR_SOC  pwr
G19  G19.MA_DQS_L[0]
G20  G20.MA_DATA[6]
G21  G21.VSS  out
G22  G22.MA_DATA[9]
G23  G23.MA_DQS_L[1]
G24  G24.VSS  out
G25  G25.MA_DATA[21]
G26  G26.MA_DM[2]
G27  G27.VSS  out
G28  G28.MA_DATA[18]
G29  G29.MA_DATA[29]
G30  G30.VSS  out
G31  G31.MA_DATA[31]
G32  G32.MA_CHECK[1]
G33  G33.VSS  out
G34  G34.MA_DM[8]
G35  G35.VSS  out
G36  G36.VSS  out
G37  G37.MB_DQS_L[8]
G38  G38.MB_DQS_H[8]
G39  G39.VSS  out
H1  H1.P_GFX_TXN[3]
H2  H2.VDDCR_SOC  pwr
H3  H3.P_GFX_TXP[4]
H4  H4.VSS  out
H5  H5.VSS  out
H6  H6.P_GFX_RXN[2]
H7  H7.P_GFX_RXP[2]
H8  H8.VSS  out
H9  H9.DP0_HPD
H10  H10.DP0_AUXN
H11  H11.VSS  out
H12  H12.DP_VARYBL
H13  H13.DP_DIGON
H14  H14.VSS  out
H15  H15.PROCHOT_L
H16  H16.TEST19
H17  H17.VSS  out
H18  H18.MA_DATA[4]
H19  H19.MA_DQS_H[0]
H20  H20.VSS  out
H21  H21.MA_DATA[3]
H22  H22.MA_DATA[8]
H23  H23.VSS  out
H24  H24.MA_DATA[14]
H25  H25.MA_DATA[20]
H26  H26.VSS  out
H27  H27.MA_DATA[23]
H28  H28.MA_DATA[19]
H29  H29.VSS  out
H30  H30.MA_DM[3]
H31  H31.MA_DATA[26]
H32  H32.VSS  out
H33  H33.MA_DQS_L[8]
H34  H34.MA_DQS_H[8]
H35  H35.VSS  out
H36  H36.MB_CHECK[6]
H37  H37.MB_CHECK[7]
H38  H38.VSS  out
H39  H39.MB_CHECK[2]
J1  J1.VSS  out
J2  J2.P-GFX_TXP[5]
J3  J3.P_GFX_TXN[4]
J4  J4.VSS  out
J5  J5.P_GFX_RXN[3]
J6  J6.P_GFX_RXP[3]
J7  J7.VDDCR_SOC  pwr
J8  J8.VSS  out
J9  J9.VSS  out
J10  J10.VDDCR_SOC  pwr
J11  J11.VSS  out
J12  J12.VDDCR_SOC  pwr
J13  J13.VSS  out
J14  J14.VDDCR_SOC  pwr
J15  J15.VSS  out
J16  J16.VDDCR_SOC  pwr
J17  J17.VSS  out
J18  J18.MA_DATA[1]
J19  J19.VSS  out
J20  J20.MA_DATA[2]
J21  J21.MA_DATA[13]
J22  J22.VSS  out
J23  J23.MA_DM[1]
J24  J24.MA_DATA[11]
J25  J25.VSS  out
J26  J26.MA_DATA[16]
J27  J27.MA_DATA[17]
J28  J28.VSS  out
J29  J29.MA_DATA[28]
J30  J30.MA_DATA[25]
J31  J31.VSS  out
J32  J32.MA_CHECK[6]
J33  J33.MA_CHECK[7]
J34  J34.VSS  out
J35  J35.VSS  out
J36  J36.RSVD  nc
J37  J37.VSS  out
J38  J38.RSVD  nc
J39  J39.MB_CHECK[3]
K1  K1.P_GFX_TXP[6]
K2  K2.P_GFX_TXN[5]
K3  K3.VDDCR_SOC  pwr
K4  K4.P_GFX_RXN[5]
K5  K5.P_GFX_RXP[5]
K6  K6.VDDCR_SOC  pwr
K7  K7.P_GFX_RXN[4]
K8  K8.P_GFX_RXP[4]
K9  K9.VDDCR_SOC  pwr
K10  K10.VSS  out
K11  K11.VDDCR_SOC  pwr
K12  K12.VSS  out
K13  K13.VDDCR_SOC  pwr
K14  K14.DP_STEREOSYNC
K15  K15.VDDCR_SOC  pwr
K18  K18.VSS  out
K19  K19.MA_DM[0]
K20  K20.VSS  out
K21  K21.VSS  out
K22  K22.VSS  out
K23  K23.VSS  out
K26  K26.VSS  out
K27  K27.VSS  out
K28  K28.VSS  out
K29  K29.VSS  out
K30  K30.VSS  out
K31  K31.MA_CHECK[2]
K32  K32.MA_CHECK[3]
K33  K33.VSS  out
K34  K34.RSVD  nc
K35  K35.MB_RESET_L
K36  K36.VDDIO_MEM_S3  pwr
K37  K37.MB0_CKE[1]
K38  K38.RSVD  nc
K39  K39.VDDIO_MEM_S3  pwr
L1  L1.P_GFX_TXN[6]
L2  L2.VDDCR_SOC  pwr
L3  L3.P_GFX_TXP[7]
L4  L4.VSS  out
L5  L5.VSS  out
L6  L6.P_GFX_RXN[6]
L7  L7.P_GFX_RXP[6]
L8  L8.VSS  out
L9  L9.VSS  out
L10  L10.VDDCR_SOC  pwr
L11  L11.VSS  out
L12  L12.VDDCR_SOC  pwr
L13  L13.VSS  out
L14  L14.VDDCR_SOC  pwr
L15  L15.VSS  out
L16  L16.VDDCR_SOC  pwr
L17  L17.VSS  out
L18  L18.VDDCR_SOC  pwr
L19  L19.VSS  out
L20  L20.VDDCR_SOC  pwr
L21  L21.VSS  out
L22  L22.VDDCR_SOC  pwr
L23  L23.TEST4
L24  L24.VDDCR_SOC  pwr
L25  L25.VSS  out
L26  L26.VDDCR_SOC  pwr
L27  L27.VSS  out
L28  L28.VSS  out
L29  L29.VSS  out
L30  L30.VSS  out
L31  L31.VSS  out
L32  L32.VDDIO_MEM_S3  pwr
L33  L33.MA_RESET_L
L34  L34.MA1_CKE[1]
L35  L35.VDDIO_MEM_S3  pwr
L36  L36.MB1_CKE[1]
L37  L37.MB0_CKE[0]
L38  L38.VDDIO_MEM_S3  pwr
L39  L39.MB1_CKE[0]
M1  M1.VSS  out
M2  M2.P_GFX_TXP[8]
M3  M3.P_GFX_TXN[7]
M4  M4.VSS  out
M5  M5.P_GFX_RXN[7]
M6  M6.P_GFX_RXP[7]
M7  M7.VDDCR_CPU  pwr
M8  M8.VSS  out
M9  M9.VDDCR_SOC  pwr
M10  M10.VSS  out
M11  M11.VDDCR_SOC  pwr
M12  M12.VSS  out
M13  M13.VDDCR_SOC  pwr
M14  M14.VSS  out
M15  M15.VDDCR_SOC  pwr
M16  M16.VSS  out
M17  M17.VDDCR_SOC  pwr
M18  M18.VSS  out
M19  M19.VDDCR_SOC  pwr
M20  M20.VSS  out
M21  M21.VDDCR_SOC  pwr
M22  M22.TEST5
M23  M23.VDDCR_SOC  pwr
M24  M24.VSS  out
M25  M25.VDDCR_SOC  pwr
M26  M26.VSS  out
M27  M27.VSS  out
M28  M28.VSS  out
M29  M29.VDDIO_MEM_S3  pwr
M30  M30.MA0_CKE[1]
M31  M31.VDDIO_MEM_S3  pwr
M32  M32.MA0_CKE[0]
M33  M33.MA1_CKE[0]
M34  M34.VDDIO_MEM_S3  pwr
M35  M35.MA_ACT_L
M36  M36.MB_BG[0]
M37  M37.VDDIO_MEM_S3  pwr
M38  M38.MB_ACT_L
M39  M39.MB_BG[1]
N1  N1.P_GFX_TXP[9]
N2  N2.P_GFX_TXN[8]
N3  N3.VDDCR_CPU  pwr
N4  N4.P_GFX_RXN[9]
N5  N5.P_GFX_RXP[9]
N6  N6.VDDCR_CPU  pwr
N7  N7.P_GFX_RXN[8]
N8  N8.P_GFX_RXP[8]
N9  N9.VSS  out
N10  N10.VDDCR_SOC  pwr
N11  N11.VSS  out
N12  N12.VDDCR_SOC  pwr
N13  N13.VSS  out
N14  N14.VDDCR_SOC  pwr
N15  N15.VSS  out
N16  N16.VDDCR_SOC  pwr
N17  N17.VSS  out
N18  N18.VDDCR_SOC  pwr
N19  N19.VSS  out
N20  N20.VDDCR_SOC  pwr
N21  N21.VSS  out
N22  N22.VDDCR_SOC  pwr
N23  N23.VSS  out
N24  N24.VDDCR_SOC  pwr
N25  N25.VSS  out
N26  N26.VDDCR_SOC  pwr
N27  N27.VSS  out
N28  N28.VDDIO_MEM_S3  pwr
N29  N29.VSS  out
N30  N30.VDDIO_MEM_S3  pwr
N31  N31.MA_BG[0]
N32  N32.MA_BG[1]
N33  N33.VDDIO_MEM_S3  pwr
N34  N34.MA_ALERT_L
N35  N35.MA_ADD[12]
N36  N36.VDDIO_MEM_S3  pwr
N37  N37.MB_ALERT_L
N38  N38.MB_ADD[12]
N39  N39.VDDIO_MEM_S3  pwr
P1  P1.P_GFX_TXN[9]
P2  P2.VDDCR_CPU  pwr
P3  P3.P_GFX_TXP[10]
P4  P4.VSS  out
P5  P5.VSS  out
P6  P6.P_GFX_RXN[10]
P7  P7.P_GFX_RXP[10]
P8  P8.VSS  out
P9  P9.VDDCR_SOC  pwr
P10  P10.VSS  out
P11  P11.VDDCR_SOC  pwr
P12  P12.VSS  out
P13  P13.VDDCR_SOC  pwr
P27  P27.VDDIO_MEM_S3  pwr
P28  P28.TEST47
P29  P29.VDDIO_MEM_S3  pwr
P30  P30.MA_ADD[8]
P31  P31.MA_ADD[9]
P32  P32.VDDIO_MEM_S3  pwr
P33  P33.MA_ADD[11]
P34  P34.MA_ADD[7]
P35  P35.VDDIO_MEM_S3  pwr
P36  P36.MB_ADD[9]
P37  P37.MB_ADD[11]
P38  P38.VDDIO_MEM_S3  pwr
P39  P39.MB_ADD[7]
R1  R1.VSS  out
R2  R2.P_GFX_TXP[11]
R3  R3.P_GFX_TXN[10]
R4  R4.VSS  out
R5  R5.P_GFX_RXN[11]
R6  R6.P_GFX_RXP[11]
R7  R7.VDDCR_CPU  pwr
R8  R8.VSS  out
R9  R9.VSS  out
R10  R10.VDDCR-SOC  pwr
R11  R11.VSS  out
R12  R12.VDDCR_SOC  pwr
R13  R13.VSS  out
R27  R27.VSS  out
R28  R28.VDDIO_MEM_S3  pwr
R29  R29.VSS  out
R30  R30.MA_ADD[4]
R31  R31.VDDIO_MEM_S3  pwr
R32  R32.MA_ADD[6]
R33  R33.MA_ADD[5]
R34  R34.VDDIO_MEM_S3  pwr
R35  R35.RSVD  nc
R36  R36.MB_ADD[6]
R37  R37.VDDIO_MEM_S3  pwr
R38  R38.MB_ADD[8]
R39  R39.MB_ADD[5]
T1  T1.P_GFX_TXP[12]
T2  T2.P_GFX_TXN[11]
T3  T3.VDDCR_CPU  pwr
T4  T4.P_GFX_RXP[13]
T5  T5.P_GFX_RXN[13]
T6  T6.VDDCR_CPU  pwr
T7  T7.P_GFX_RXN[12]
T8  T8.P_GFX_RXP[12]
T9  T9.VDDCR_CPU  pwr
T10  T10.VSS  out
T11  T11.VDDCR_SOC  pwr
T12  T12.VSS  out
T13  T13.VDDCR_SOC  pwr
T27  T27.VDDIO_MEM_S3  pwr
T28  T28.VSS  out
T29  T29.VDDIO_MEM_S3  pwr
T30  T30.VSS  out
T31  T31.MA_ADD[3]
T32  T32.MA_ADD[1]
T33  T33.VDDIO_MEM_S3  pwr
T34  T34.MA_CLK_H[0]
T35  T35.MA_ADD[2]
T36  T36.VDDIO_MEM_S3  pwr
T37  T37.MB_ADD[4]
T38  T38.MB_ADD[3]
T39  T39.VDDIO_MEM_S3  pwr
U1  U1.P_GFX_TXN[12]
U2  U2.VDDCR_CPU  pwr
U3  U3.P_GFX_TXP[13]
U4  U4.VSS  out
U5  U5.VSS  out
U6  U6.P_GFX_RXN[14]
U7  U7.P_GFX_RXP[14]
U8  U8.VSS  out
U9  U9.VSS  out
U10  U10.VDDCR_CPU  pwr
U11  U11.VSS  out
U12  U12.VDDCR_SOC  pwr
U13  U13.VSS  out
U27  U27.VSS  out
U28  U28.VDDIO_MEM_S3  pwr
U29  U29.VSS  out
U30  U30.VDDIO_MEM_S3  pwr
U31  U31.VSS  out
U32  U32.VDDIO_MEM_S3  pwr
U33  U33.MA_CLK_H[1]
U34  U34.MA_CLK_L[0]
U35  U35.VDDIO_MEM_S3  pwr
U36  U36.MB_ADD[1]
U37  U37.MB_ADD[2]
U38  U38.VDDIO_MEM_S3  pwr
U39  U39.MB_CLK_H[0]
V1  V1.VSS  out
V2  V2.P_GFX_TXP[14]
V3  V3.P_GFX_TXN[13]
V4  V4.VSS  out
V5  V5.P_GFX_RXN[15]
V6  V6.P_GFX_RXP[15]
V7  V7.VSS  out
V8  V8.P0A_ZVSS  out
V9  V9.VDDCR_CPU  pwr
V10  V10.VSS  out
V11  V11.VDDCR_CPU  pwr
V12  V12.VSS  out
V13  V13.VDDCR_SOC  pwr
V27  V27.VDDIO_MEM_S3  pwr
V28  V28.VSS  out
V29  V29.VDDIO_MEM_S3  pwr
V30  V30.VSS  out
V31  V31.VDDIO_MEM_S3  pwr
V32  V32.MA_CLK_H[3]
V33  V33.MA_CLK_L[1]
V34  V34.VDDIO_MEM_S3  pwr
V35  V35.MA_CLK_H[2]
V36  V36.MA_CLK_L[2]
V37  V37.VDDIO_MEM_S3  pwr
V38  V38.MB_CLK_H[1]
V39  V39.MB_CLK_L[0]
W1  W1.P_GFX_TXP[15]
W2  W2.P_GFX_TXN[14]
W3  W3.VDDCR_CPU  pwr
W4  W4.P_HUB_RXP[3]
W5  W5.P_HUB_RXN[3]
W6  W6.VDDCR_CPU  pwr
W7  W7.P_ZVSS  out
W8  W8.P_ZVDDP  pwr
W9  W9.VSS  out
W10  W10.VDDCR_CPU  pwr
W11  W11.VSS  out
W12  W12.VDDCR_CPU  pwr
W13  W13.VSS  out
W27  W27.VSS  out
W28  W28.VDDIO_MEM_S3  pwr
W29  W29.VSS  out
W30  W30.TEST40
W31  W31.VSS  out
W32  W32.MA_CLK_L[3]
W33  W33.VDDIO_MEM_S3  pwr
W34  W34.VDDIO_MEM_S3  pwr
W35  W35.MA_EVENT_L
W36  W36.VDDIO_MEM_S3  pwr
W37  W37.MB_CLK_H[2]
W38  W38.MB_CLK_L[1]
W39  W39.VDDIO_MEM_S3  pwr
Y1  Y1.P_GFX_TXN[15]
Y2  Y2.VDDCR_CPU  pwr
Y3  Y3.USB_SS_0RXP
Y4  Y4.USB_SS_0RXN
Y5  Y5.VSS  out
Y6  Y6.P_HUB_RXP[2]
Y7  Y7.P_HUB_RXN[2]
Y8  Y8.VSS  out
Y9  Y9.VDDCR_CPU  pwr
Y10  Y10.VSS  out
Y11  Y11.VDDCR_CPU  pwr
Y12  Y12.VSS  out
Y13  Y13.VDDCR_CPU  pwr
Y27  Y27.VDDIO_MEM_S3  pwr
Y28  Y28.VSS  out
Y29  Y29.VDDIO_MEM_S3  pwr
Y30  Y30.VSS  out
Y31  Y31.VDDIO_MEM_S3  pwr
Y32  Y32.VDDIO_MEM_S3  pwr
Y33  Y33.MA_PARTOUT  out
Y34  Y34.MA__ZVDDIO_MEM_S3  pwr
Y35  Y35.VDDIO_MEM_S3  pwr
Y36  Y36.MB__ZVDDIO_MEM_S3  pwr
Y37  Y37.MB_CLK_L[2]
Y38  Y38.VDDIO_MEM_S3  pwr
Y39  Y39.MB_CLK_H[3]

## Footprint AM4_SOCKET (pad centres in mm)
AM4 Socket Footprint by YeaTheMen AMD Ryzen AM4 Socket Footprint EAGLE Library Footprint Revision C github.com/YeaTheMen/eagle-libraries Notes * Measurements and Pins referenced from resources from WikiChip AM4 Socket <https://en.wikichip.org/wiki/amd/packages/socket_am4> * AM4 Socket is Foxconn PZ1331A_51ZZ0_1H <https://www.foxconn-connector.com/socket/PZ1331A_51ZZ0_1H_3162.html>
smd 0.485 x 0.485: A3 -17,19; A4 -16,19; A5 -15,19; A6 -14,19; A7 -13,19; A8 -12,19; A9 -11,19; A10 -10,19; A11 -9,19; A12 -8,19; A13 -7,19; A14 -6,19; A15 -5,19; A16 -4,19; A17 -3,19; A18 -2,19; A19 -1,19; A20 0,19; A21 1,19; A22 2,19; A23 3,19; A24 4,19; A25 5,19; A26 6,19; A27 7,19; A28 8,19; A29 9,19; A30 10,19; A31 11,19; A32 12,19; A33 13,19; A34 14,19; A35 15,19; A36 16,19; A37 17,19; AA1 -19,-1; AA2 -18,-1; AA3 -17,-1; AA4 -16,-1; AA5 -15,-1; AA6 -14,-1; AA7 -13,-1; AA8 -12,-1; AA9 -11,-1; AA10 -10,-1; AA11 -9,-1; AA12 -8,-1; AA13 -7,-1; AA27 7,-1; AA28 8,-1; AA29 9,-1; AA30 10,-1; AA31 11,-1; AA32 12,-1; AA33 13,-1; AA34 14,-1; AA35 15,-1; AA36 16,-1; AA37 17,-1; AA38 18,-1; AA39 19,-1; AB1 -19,-2; AB2 -18,-2; AB3 -17,-2; AB4 -16,-2; AB5 -15,-2; AB6 -14,-2; AB7 -13,-2; AB8 -12,-2; AB9 -11,-2; AB10 -10,-2; AB11 -9,-2; AB12 -8,-2; AB13 -7,-2; AB27 7,-2; AB28 8,-2; AB29 9,-2; AB30 10,-2; AB31 11,-2; AB32 12,-2; AB33 13,-2; AB34 14,-2; AB35 15,-2; AB36 16,-2; AB37 17,-2; AB38 18,-2; AB39 19,-2; AC1 -19,-3; AC2 -18,-3; AC3 -17,-3; AC4 -16,-3; AC5 -15,-3; AC6 -14,-3; AC7 -13,-3; AC8 -12,-3; AC9 -11,-3; AC10 -10,-3; AC11 -9,-3; AC12 -8,-3; AC13 -7,-3; AC27 7,-3; AC28 8,-3; AC29 9,-3; AC30 10,-3; AC31 11,-3; AC32 12,-3; AC33 13,-3; AC34 14,-3; AC35 15,-3; AC36 16,-3; AC37 17,-3; AC38 18,-3; AC39 19,-3; AD1 -19,-4; AD2 -18,-4; AD3 -17,-4; AD4 -16,-4; AD5 -15,-4; AD6 -14,-4; AD7 -13,-4; AD8 -12,-4; AD9 -11,-4; AD10 -10,-4; AD11 -9,-4; AD12 -8,-4; AD13 -7,-4; AD27 7,-4; AD28 8,-4; AD29 9,-4; AD30 10,-4; AD31 11,-4; AD32 12,-4; AD33 13,-4; AD34 14,-4; AD35 15,-4; AD36 16,-4; AD37 17,-4; AD38 18,-4; AD39 19,-4; AE1 -19,-5; AE2 -18,-5; AE3 -17,-5; AE4 -16,-5; AE5 -15,-5; AE6 -14,-5; AE7 -13,-5; AE8 -12,-5; AE9 -11,-5; AE10 -10,-5; AE11 -9,-5; AE12 -8,-5; AE13 -7,-5; AE27 7,-5; AE28 8,-5; AE29 9,-5; AE30 10,-5; AE31 11,-5; AE32 12,-5; AE33 13,-5; AE34 14,-5; AE35 15,-5; AE36 16,-5; AE37 17,-5; AE38 18,-5; AE39 19,-5; AF1 -19,-6; AF2 -18,-6; AF3 -17,-6; AF4 -16,-6; AF5 -15,-6; AF6 -14,-6; AF7 -13,-6; AF8 -12,-6; AF9 -11,-6; AF10 -10,-6; AF11 -9,-6; AF12 -8,-6; AF13 -7,-6; AF27 7,-6; AF28 8,-6; AF29 9,-6; AF30 10,-6; AF31 11,-6; AF32 12,-6; AF33 13,-6; AF34 14,-6; AF35 15,-6; AF36 16,-6; AF37 17,-6; AF38 18,-6; AF39 19,-6; AG1 -19,-7; AG2 -18,-7; AG3 -17,-7; AG4 -16,-7; AG5 -15,-7; AG6 -14,-7; AG7 -13,-7; AG8 -12,-7; AG9 -11,-7; AG10 -10,-7; AG11 -9,-7; AG12 -8,-7; AG13 -7,-7; AG14 -6,-7; AG15 -5,-7; AG16 -4,-7; AG17 -3,-7; AG18 -2,-7; AG19 -1,-7; AG20 0,-7; AG21 1,-7; AG22 2,-7; AG23 3,-7; AG24 4,-7; AG25 5,-7; AG26 6,-7; AG27 7,-7; AG28 8,-7; AG29 9,-7; AG30 10,-7; AG31 11,-7; AG32 12,-7; AG33 13,-7; AG34 14,-7; AG35 15,-7; AG36 16,-7; AG37 17,-7; AG38 18,-7; AG39 19,-7; AH1 -19,-8; AH2 -18,-8; AH3 -17,-8; AH4 -16,-8; AH5 -15,-8; AH6 -14,-8; AH7 -13,-8; AH8 -12,-8; AH9 -11,-8; AH10 -10,-8; AH11 -9,-8; AH12 -8,-8; AH13 -7,-8; AH14 -6,-8; AH15 -5,-8; AH16 -4,-8; AH17 -3,-8; AH18 -2,-8; AH19 -1,-8; AH20 0,-8; AH21 1,-8; AH22 2,-8; AH23 3,-8; AH24 4,-8; AH25 5,-8; AH26 6,-8; AH27 7,-8; AH28 8,-8; AH29 9,-8; AH30 10,-8; AH31 11,-8; AH32 12,-8; AH33 13,-8; AH34 14,-8; AH35 15,-8; AH36 16,-8; AH37 17,-8; AH38 18,-8; AH39 19,-8; AJ1 -19,-9; AJ2 -18,-9; AJ3 -17,-9; AJ4 -16,-9; AJ5 -15,-9; AJ6 -14,-9; AJ7 -13,-9; AJ8 -12,-9; AJ9 -11,-9; AJ10 -10,-9; AJ11 -9,-9; AJ12 -8,-9; AJ13 -7,-9; AJ14 -6,-9; AJ15 -5,-9; AJ16 -4,-9; AJ17 -3,-9; AJ18 -2,-9; AJ19 -1,-9; AJ20 0,-9; AJ21 1,-9; AJ22 2,-9; AJ23 3,-9; AJ24 4,-9; AJ25 5,-9; AJ26 6,-9; AJ27 7,-9; AJ28 8,-9; AJ29 9,-9; AJ30 10,-9; AJ31 11,-9; AJ32 12,-9; AJ33 13,-9; AJ34 14,-9; AJ35 15,-9; AJ36 16,-9; AJ37 17,-9; AJ38 18,-9; AJ39 19,-9; AK1 -19,-10; AK2 -18,-10; AK3 -17,-10; AK4 -16,-10; AK5 -15,-10; AK6 -14,-10; AK7 -13,-10; AK8 -12,-10; AK9 -11,-10; AK10 -10,-10; AK11 -9,-10; AK12 -8,-10; AK13 -7,-10; AK14 -6,-10; AK15 -5,-10; AK18 -2,-10; AK19 -1,-10; AK20 0,-10; AK21 1,-10; AK22 2,-10; AK25 5,-10; AK26 6,-10; AK27 7,-10; AK28 8,-10; AK29 9,-10; AK30 10,-10; AK31 11,-10; AK32 12,-10; AK33 13,-10; AK34 14,-10; AK35 15,-10; AK36 16,-10; AK37 17,-10; AK38 18,-10; AK39 19,-10; AL1 -19,-11; AL2 -18,-11; AL3 -17,-11; AL4 -16,-11; AL5 -15,-11; AL6 -14,-11; AL7 -13,-11; AL8 -12,-11; AL9 -11,-11; AL10 -10,-11; AL11 -9,-11; AL12 -8,-11; AL13 -7,-11; AL14 -6,-11; AL15 -5,-11; AL16 -4,-11; AL17 -3,-11; AL18 -2,-11; AL19 -1,-11; AL20 0,-11; AL21 1,-11; AL22 2,-11; AL23 3,-11; AL24 4,-11; AL25 5,-11; AL26 6,-11; AL27 7,-11; AL28 8,-11; AL29 9,-11; AL30 10,-11; AL31 11,-11; AL32 12,-11; AL33 13,-11; AL34 14,-11; AL35 15,-11; AL36 16,-11; AL37 17,-11; AL38 18,-11; AL39 19,-11; AM1 -19,-12; AM2 -18,-12; AM3 -17,-12; AM4 -16,-12; AM5 -15,-12; AM6 -14,-12; AM7 -13,-12; AM8 -12,-12; AM9 -11,-12; AM10 -10,-12; AM11 -9,-12; AM12 -8,-12; AM13 -7,-12; AM14 -6,-12; AM15 -5,-12; AM16 -4,-12; AM17 -3,-12; AM18 -2,-12; AM19 -1,-12; AM20 0,-12; AM21 1,-12; AM22 2,-12; AM23 3,-12; AM24 4,-12; AM25 5,-12; AM26 6,-12; AM27 7,-12; AM28 8,-12; AM29 9,-12; AM30 10,-12; AM31 11,-12; AM32 12,-12; AM33 13,-12; AM34 14,-12; AM35 15,-12; AM36 16,-12; AM37 17,-12; AM38 18,-12; AM39 19,-12; AN1 -19,-13; AN2 -18,-13; AN3 -17,-13; AN4 -16,-13; AN5 -15,-13; AN6 -14,-13; AN7 -13,-13; AN8 -12,-13; AN9 -11,-13; AN10 -10,-13; AN11 -9,-13; AN12 -8,-13; AN13 -7,-13; AN14 -6,-13; AN15 -5,-13; AN16 -4,-13; AN17 -3,-13; AN18 -2,-13; AN19 -1,-13; AN20 0,-13; AN21 1,-13; AN22 2,-13; AN23 3,-13; AN24 4,-13; AN25 5,-13; AN26 6,-13; AN27 7,-13; AN28 8,-13; AN29 9,-13; AN30 10,-13; AN31 11,-13; AN32 12,-13; AN33 13,-13; AN34 14,-13; AN35 15,-13; AN36 16,-13; AN37 17,-13; AN38 18,-13; AN39 19,-13; AP1 -19,-14; AP2 -18,-14; AP3 -17,-14; AP4 -16,-14; AP5 -15,-14; AP6 -14,-14; AP7 -13,-14; AP8 -12,-14; AP9 -11,-14; AP10 -10,-14; AP11 -9,-14; AP12 -8,-14; AP13 -7,-14; AP14 -6,-14; AP15 -5,-14; AP16 -4,-14; AP17 -3,-14; AP18 -2,-14; AP19 -1,-14; AP20 0,-14; AP21 1,-14; AP22 2,-14; AP23 3,-14; AP24 4,-14; AP25 5,-14; AP26 6,-14; AP27 7,-14; AP28 8,-14; AP29 9,-14; AP30 10,-14; AP31 11,-14; AP32 12,-14; AP33 13,-14; AP34 14,-14; AP35 15,-14; AP36 16,-14; AP37 17,-14; AP38 18,-14; AP39 19,-14; AR1 -19,-15; AR2 -18,-15; AR3 -17,-15; AR4 -16,-15; AR5 -15,-15; AR6 -14,-15; AR7 -13,-15; AR8 -12,-15; AR9 -11,-15; AR10 -10,-15; AR11 -9,-15; AR12 -8,-15; AR13 -7,-15; AR14 -6,-15; AR15 -5,-15; AR16 -4,-15; AR17 -3,-15; AR18 -2,-15; AR19 -1,-15; AR20 0,-15; AR21 1,-15; AR22 2,-15; AR23 3,-15; AR24 4,-15; AR25 5,-15; AR26 6,-15; AR27 7,-15; AR28 8,-15; AR29 9,-15; AR30 10,-15; AR31 11,-15; AR32 12,-15; AR33 13,-15; AR34 14,-15; AR35 15,-15; AR36 16,-15; AR37 17,-15; AR38 18,-15; AR39 19,-15; AT1 -19,-16; AT2 -18,-16; AT3 -17,-16; AT4 -16,-16; AT5 -15,-16; AT6 -14,-16; AT7 -13,-16; AT8 -12,-16; AT9 -11,-16; AT10 -10,-16; AT11 -9,-16; AT12 -8,-16; AT13 -7,-16; AT14 -6,-16; AT15 -5,-16; AT16 -4,-16; AT17 -3,-16; AT18 -2,-16; AT19 -1,-16; AT20 0,-16; AT21 1,-16; AT22 2,-16; AT23 3,-16; AT24 4,-16; AT25 5,-16; AT26 6,-16; AT27 7,-16; AT28 8,-16; AT29 9,-16; AT30 10,-16; AT31 11,-16; AT32 12,-16; AT33 13,-16; AT34 14,-16; AT35 15,-16; AT36 16,-16; AT37 17,-16; AT38 18,-16; AT39 19,-16; AU1 -19,-17; AU2 -18,-17; AU3 -17,-17; AU4 -16,-17; AU5 -15,-17; AU6 -14,-17; AU7 -13,-17; AU8 -12,-17; AU9 -11,-17; AU10 -10,-17; AU11 -9,-17; AU12 -8,-17; AU13 -7,-17; AU14 -6,-17; AU15 -5,-17; AU16 -4,-17; AU17 -3,-17; AU18 -2,-17; AU19 -1,-17; AU20 0,-17; AU21 1,-17; AU22 2,-17; AU23 3,-17; AU24 4,-17; AU25 5,-17; AU26 6,-17; AU27 7,-17; AU28 8,-17; AU29 9,-17; AU30 10,-17; AU31 11,-17; AU32 12,-17; AU33 13,-17; AU34 14,-17; AU35 15,-17; AU36 16,-17; AU37 17,-17; AU38 18,-17; AU39 19,-17; AV2 -18,-18; AV3 -17,-18; AV4 -16,-18; AV5 -15,-18; AV6 -14,-18; AV7 -13,-18; AV8 -12,-18; AV9 -11,-18; AV10 -10,-18; AV11 -9,-18; AV12 -8,-18; AV13 -7,-18; AV14 -6,-18; AV15 -5,-18; AV16 -4,-18; AV17 -3,-18; AV18 -2,-18; AV19 -1,-18; AV20 0,-18; AV21 1,-18; AV22 2,-18; AV23 3,-18; AV24 4,-18; AV25 5,-18; AV26 6,-18; AV27 7,-18; AV28 8,-18; AV29 9,-18; AV30 10,-18; AV31 11,-18; AV32 12,-18; AV33 13,-18; AV34 14,-18; AV35 15,-18; AV36 16,-18; AV37 17,-18; AV38 18,-18; AW3 -17,-19; AW4 -16,-19; AW5 -15,-19; AW6 -14,-19; AW7 -13,-19; AW8 -12,-19; AW9 -11,-19; AW10 -10,-19; AW11 -9,-19; AW12 -8,-19; AW13 -7,-19; AW14 -6,-19; AW15 -5,-19; AW16 -4,-19; AW17 -3,-19; AW18 -2,-19; AW19 -1,-19; AW20 0,-19; AW21 1,-19; AW22 2,-19; AW23 3,-19; AW24 4,-19; AW25 5,-19; AW26 6,-19; AW27 7,-19; AW28 8,-19; AW29 9,-19; AW30 10,-19; AW31 11,-19; AW32 12,-19; AW33 13,-19; AW34 14,-19; AW35 15,-19; AW36 16,-19; AW37 17,-19; B3 -17,18; B4 -16,18; B5 -15,18; B6 -14,18; B7 -13,18; B8 -12,18; B9 -11,18; B10 -10,18; B11 -9,18; B12 -8,18; B13 -7,18; B14 -6,18; B15 -5,18; B16 -4,18; B17 -3,18; B18 -2,18; B19 -1,18; B20 0,18; B21 1,18; B22 2,18; B23 3,18; B24 4,18; B25 5,18; B26 6,18; B27 7,18; B28 8,18; B29 9,18; B30 10,18; B31 11,18; B32 12,18; B33 13,18; B34 14,18; B35 15,18; B36 16,18; B37 17,18; B38 18,18; C1 -19,17; C2 -18,17; C3 -17,17; C4 -16,17; C5 -15,17; C6 -14,17; C7 -13,17; C8 -12,17; C9 -11,17; C10 -10,17; C11 -9,17; C12 -8,17; C13 -7,17; C14 -6,17; C15 -5,17; C16 -4,17; C17 -3,17; C18 -2,17; C19 -1,17; C20 0,17; C21 1,17; C22 2,17; C23 3,17; C24 4,17; C25 5,17; C26 6,17; C27 7,17; C28 8,17; C29 9,17; C30 10,17; C31 11,17; C32 12,17; C33 13,17; C34 14,17; C35 15,17; C36 16,17; C37 17,17; C38 18,17; C39 19,17; D1 -19,16; D2 -18,16; D3 -17,16; D4 -16,16; D5 -15,16; D6 -14,16; D7 -13,16; D8 -12,16; D9 -11,16; D10 -10,16; D11 -9,16; D12 -8,16; D13 -7,16; D14 -6,16; D15 -5,16; D16 -4,16; D17 -3,16; D18 -2,16; D19 -1,16; D20 0,16; D21 1,16; D22 2,16; D23 3,16; D24 4,16; D25 5,16; D26 6,16; D27 7,16; D28 8,16; D29 9,16; D30 10,16; D31 11,16; D32 12,16; D33 13,16; D34 14,16; D35 15,16; D36 16,16; D37 17,16; D38 18,16; D39 19,16; E1 -19,15; E2 -18,15; E3 -17,15; E4 -16,15; E5 -15,15; E6 -14,15; E7 -13,15; E8 -12,15; E9 -11,15; E10 -10,15; E11 -9,15; E12 -8,15; E13 -7,15; E14 -6,15; E15 -5,15; E16 -4,15; E17 -3,15; E18 -2,15; E19 -1,15; E20 0,15; E21 1,15; E22 2,15; E23 3,15; E24 4,15; E25 5,15; E26 6,15; E27 7,15; E28 8,15; E29 9,15; E30 10,15; E31 11,15; E32 12,15; E33 13,15; E34 14,15; E35 15,15; E36 16,15; E37 17,15; E38 18,15; E39 19,15; F1 -19,14; F2 -18,14; F3 -17,14; F4 -16,14; F5 -15,14; F6 -14,14; F7 -13,14; F8 -12,14; F9 -11,14; F10 -10,14; F11 -9,14; F12 -8,14; F13 -7,14; F14 -6,14; F15 -5,14; F16 -4,14; F17 -3,14; F18 -2,14; F19 -1,14; F20 0,14; F21 1,14; F22 2,14; F23 3,14; F24 4,14; F25 5,14; F26 6,14; F27 7,14; F28 8,14; F29 9,14; F30 10,14; F31 11,14; F32 12,14; F33 13,14; F34 14,14; F35 15,14; F36 16,14; F37 17,14; F38 18,14; F39 19,14; G1 -19,13; G2 -18,13; G3 -17,13; G4 -16,13; G5 -15,13; G6 -14,13; G7 -13,13; G8 -12,13; G9 -11,13; G10 -10,13; G11 -9,13; G12 -8,13; G13 -7,13; G14 -6,13; G15 -5,13; G16 -4,13; G17 -3,13; G18 -2,13; G19 -1,13; G20 0,13; G21 1,13; G22 2,13; G23 3,13; G24 4,13; G25 5,13; G26 6,13; G27 7,13; G28 8,13; G29 9,13; G30 10,13; G31 11,13; G32 12,13; G33 13,13; G34 14,13; G35 15,13; G36 16,13; G37 17,13; G38 18,13; G39 19,13; H1 -19,12; H2 -18,12; H3 -17,12; H4 -16,12; H5 -15,12; H6 -14,12; H7 -13,12; H8 -12,12; H9 -11,12; H10 -10,12; H11 -9,12; H12 -8,12; H13 -7,12; H14 -6,12; H15 -5,12; H16 -4,12; H17 -3,12; H18 -2,12; H19 -1,12; H20 0,12; H21 1,12; H22 2,12; H23 3,12; H24 4,12; H25 5,12; H26 6,12; H27 7,12; H28 8,12; H29 9,12; H30 10,12; H31 11,12; H32 12,12; H33 13,12; H34 14,12; H35 15,12; H36 16,12; H37 17,12; H38 18,12; H39 19,12; J1 -19,11; J2 -18,11; J3 -17,11; J4 -16,11; J5 -15,11; J6 -14,11; J7 -13,11; J8 -12,11; J9 -11,11; J10 -10,11; J11 -9,11; J12 -8,11; J13 -7,11; J14 -6,11; J15 -5,11; J16 -4,11; J17 -3,11; J18 -2,11; J19 -1,11; J20 0,11; J21 1,11; J22 2,11; J23 3,11; J24 4,11; J25 5,11; J26 6,11; J27 7,11; J28 8,11; J29 9,11; J30 10,11; J31 11,11; J32 12,11; J33 13,11; J34 14,11; J35 15,11; J36 16,11; J37 17,11; J38 18,11; J39 19,11; K1 -19,10; K2 -18,10; K3 -17,10; K4 -16,10; K5 -15,10; K6 -14,10; K7 -13,10; K8 -12,10; K9 -11,10; K10 -10,10; K11 -9,10; K12 -8,10; K13 -7,10; K14 -6,10; K15 -5,10; K18 -2,10; K19 -1,10; K20 0,10; K21 1,10; K22 2,10; K23 3,10; K26 6,10; K27 7,10; K28 8,10; K29 9,10; K30 10,10; K31 11,10; K32 12,10; K33 13,10; K34 14,10; K35 15,10; K36 16,10; K37 17,10; K38 18,10; K39 19,10; L1 -19,9; L2 -18,9; L3 -17,9; L4 -16,9; L5 -15,9; L6 -14,9; L7 -13,9; L8 -12,9; L9 -11,9; L10 -10,9; L11 -9,9; L12 -8,9; L13 -7,9; L14 -6,9; L15 -5,9; L16 -4,9; L17 -3,9; L18 -2,9; L19 -1,9; L20 0,9; L21 1,9; L22 2,9; L23 3,9; L24 4,9; L25 5,9; L26 6,9; L27 7,9; L28 8,9; L29 9,9; L30 10,9; L31 11,9; L32 12,9; L33 13,9; L34 14,9; L35 15,9; L36 16,9; L37 17,9; L38 18,9; L39 19,9; M1 -19,8; M2 -18,8; M3 -17,8; M4 -16,8; M5 -15,8; M6 -14,8; M7 -13,8; M8 -12,8; M9 -11,8; M10 -10,8; M11 -9,8; M12 -8,8; M13 -7,8; M14 -6,8; M15 -5,8; M16 -4,8; M17 -3,8; M18 -2,8; M19 -1,8; M20 0,8; M21 1,8; M22 2,8; M23 3,8; M24 4,8; M25 5,8; M26 6,8; M27 7,8; M28 8,8; M29 9,8; M30 10,8; M31 11,8; M32 12,8; M33 13,8; M34 14,8; M35 15,8; M36 16,8; M37 17,8; M38 18,8; M39 19,8; N1 -19,7; N2 -18,7; N3 -17,7; N4 -16,7; N5 -15,7; N6 -14,7; N7 -13,7; N8 -12,7; N9 -11,7; N10 -10,7; N11 -9,7; N12 -8,7; N13 -7,7; N14 -6,7; N15 -5,7; N16 -4,7; N17 -3,7; N18 -2,7; N19 -1,7; N20 0,7; N21 1,7; N22 2,7; N23 3,7; N24 4,7; N25 5,7; N26 6,7; N27 7,7; N28 8,7; N29 9,7; N30 10,7; N31 11,7; N32 12,7; N33 13,7; N34 14,7; N35 15,7; N36 16,7; N37 17,7; N38 18,7; N39 19,7; P1 -19,6; P2 -18,6; P3 -17,6; P4 -16,6; P5 -15,6; P6 -14,6; P7 -13,6; P8 -12,6; P9 -11,6; P10 -10,6; P11 -9,6; P12 -8,6; P13 -7,6; P27 7,6; P28 8,6; P29 9,6; P30 10,6; P31 11,6; P32 12,6; P33 13,6; P34 14,6; P35 15,6; P36 16,6; P37 17,6; P38 18,6; P39 19,6; R1 -19,5; R2 -18,5; R3 -17,5; R4 -16,5; R5 -15,5; R6 -14,5; R7 -13,5; R8 -12,5; R9 -11,5; R10 -10,5; R11 -9,5; R12 -8,5; R13 -7,5; R27 7,5; R28 8,5; R29 9,5; R30 10,5; R31 11,5; R32 12,5; R33 13,5; R34 14,5; R35 15,5; R36 16,5; R37 17,5; R38 18,5; R39 19,5; T1 -19,4; T2 -18,4; T3 -17,4; T4 -16,4; T5 -15,4; T6 -14,4; T7 -13,4; T8 -12,4; T9 -11,4; T10 -10,4; T11 -9,4; T12 -8,4; T13 -7,4; T27 7,4; T28 8,4; T29 9,4; T30 10,4; T31 11,4; T32 12,4; T33 13,4; T34 14,4; T35 15,4; T36 16,4; T37 17,4; T38 18,4; T39 19,4; U1 -19,3; U2 -18,3; U3 -17,3; U4 -16,3; U5 -15,3; U6 -14,3; U7 -13,3; U8 -12,3; U9 -11,3; U10 -10,3; U11 -9,3; U12 -8,3; U13 -7,3; U27 7,3; U28 8,3; U29 9,3; U30 10,3; U31 11,3; U32 12,3; U33 13,3; U34 14,3; U35 15,3; U36 16,3; U37 17,3; U38 18,3; U39 19,3; V1 -19,2; V2 -18,2; V3 -17,2; V4 -16,2; V5 -15,2; V6 -14,2; V7 -13,2; V8 -12,2; V9 -11,2; V10 -10,2; V11 -9,2; V12 -8,2; V13 -7,2; V27 7,2; V28 8,2; V29 9,2; V30 10,2; V31 11,2; V32 12,2; V33 13,2; V34 14,2; V35 15,2; V36 16,2; V37 17,2; V38 18,2; V39 19,2; W1 -19,1; W2 -18,1; W3 -17,1; W4 -16,1; W5 -15,1; W6 -14,1; W7 -13,1; W8 -12,1; W9 -11,1; W10 -10,1; W11 -9,1; W12 -8,1; W13 -7,1; W27 7,1; W28 8,1; W29 9,1; W30 10,1; W31 11,1; W32 12,1; W33 13,1; W34 14,1; W35 15,1; W36 16,1; W37 17,1; W38 18,1; W39 19,1; Y1 -19,0; Y2 -18,0; Y3 -17,0; Y4 -16,0; Y5 -15,0; Y6 -14,0; Y7 -13,0; Y8 -12,0; Y9 -11,0; Y10 -10,0; Y11 -9,0; Y12 -8,0; Y13 -7,0; Y27 7,0; Y28 8,0; Y29 9,0; Y30 10,0; Y31 11,0; Y32 12,0; Y33 13,0; Y34 14,0; Y35 15,0; Y36 16,0; Y37 17,0; Y38 18,0; Y39 19,0